# Altium footprint library TX2575.PcbLib: 1 footprints
Each footprint in its own frame and in the unit in brackets; x right, y up, seen from the top. Pads: shape width x height; smd on the part's side, far side on the other; paste and mask are expansions set on the pad; w line width, h text height; cw(c..) or ccw(c..) is an arc to the next point about the centre after c.
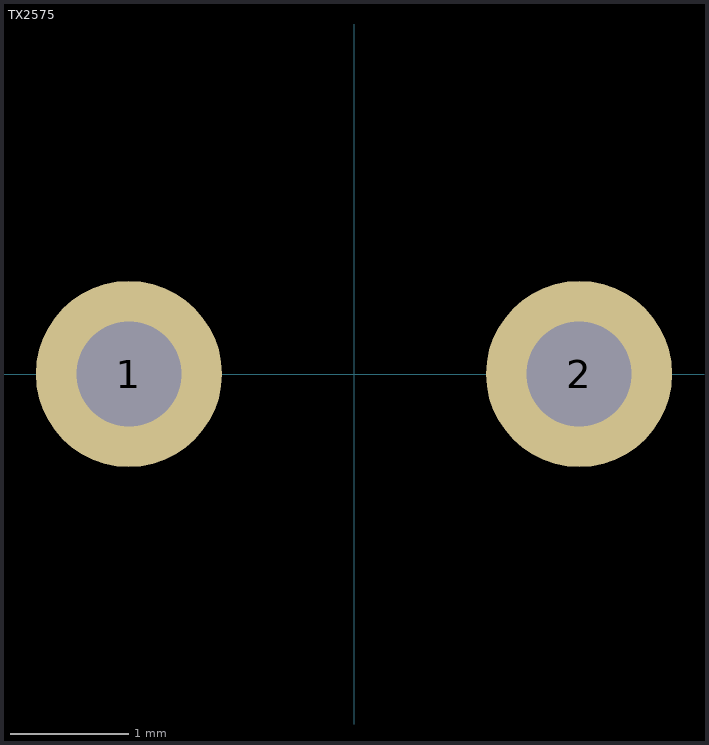
[diagram p0: the footprint, top view; thin cyan lines are the x and y axes]

## TX2575 [mil] "Naked Z-foil Resistor from Texas Components"
height 350
pads (2):
  round 62 hole 35: 1(-75,0) 2(75,0)
3D body: height 350, standoff 50, extent -125,-40 125,40